# Altium footprint library Discrete_Diodes_Footprints_SMD.PcbLib: 6 footprints
Each footprint in its own frame and in the unit in brackets; x right, y up, seen from the top. Pads: shape width x height; smd on the part's side, far side on the other; paste and mask are expansions set on the pad; w line width, h text height; cw(c..) or ccw(c..) is an arc to the next point about the centre after c.
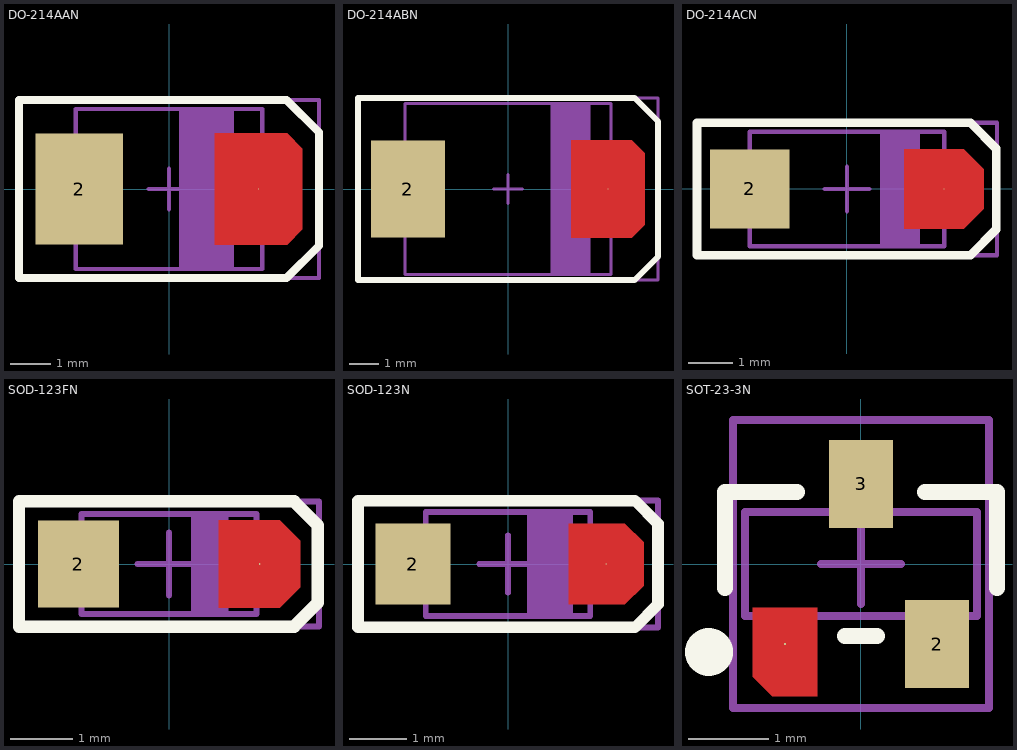
[diagram p0: the footprints below, top view; thin cyan lines are the x and y axes]

## DO-214AAN [mil]
height 98.43
pads (2):
  round 1 smd: 1(87.01,0)
  rect 85x107.99 smd: 2(-87.01,0)
Top Layer:
  region: 129.51,39.12 114.63,54 44.51,54 44.51,-54 114.63,-54 129.51,-39.12
Top Overlay:
  lines w7.87: -145.67,-86.61 -145.67,86.61 114.17,86.61 145.67,55.12 145.67,-55.12 114.17,-86.61 -145.67,-86.61
Top Package:
  rectangle: 12.8,-77.76 62.01,78.74
  lines w3.94: -90.55,-43.31 -110.24,-43.31 -110.24,43.31 -90.55,43.31 ; 11.81,-76.77 11.81,77.76 ; 61.02,-77.76 61.02,77.76 ; 90.55,-43.31 110.24,-43.31 110.24,43.31 90.55,43.31 ; -90.55,-77.76 90.55,-77.76 90.55,77.76 -90.55,77.76 -90.55,-77.76
Top Comment:
  text ".Comment" at -67.01,-15.38 h47.24
Top Designator:
  text ".Designator" at -101.53,-13.76 h59.06
Top Border:
  lines w3.94: -19.68,0 19.68,0 ; 0,-19.68 0,19.68 ; -145.67,-86.61 145.67,-86.61 145.67,86.61 -145.67,86.61 -145.67,-86.61
3D body "User Library-DO-214AA_SMB.step": height 86.65, standoff -1.97, extent -104.34,-72.84 104.32,72.83

## DO-214ABN [mm]
height 2.5
pads (2):
  round 0.025 smd: 1(3.4,0)
  rect 2.5x3.3 smd: 2(-3.4,0)
Top Layer:
  region: 4.65,1.213 4.213,1.65 2.15,1.65 2.15,-1.65 4.213,-1.65 4.65,-1.213
Top Overlay:
  lines w0.2: -5.1,-3.1 4.3,-3.1 5.1,-2.3 5.1,2.3 4.3,3.1 -5.1,3.1 -5.1,-3.1
Top Package:
  rectangle: 1.525,-2.875 2.775,2.875
  lines w0.1: -3.5,-1.4 -4,-1.4 -4,1.4 -3.5,1.4 ; 1.5,-2.9 1.5,2.9 ; 2.75,-2.9 2.75,2.9 ; 3.5,-1.5 4,-1.5 4,1.5 3.5,1.5 ; -3.5,-2.9 3.5,-2.9 3.5,2.9 -3.5,2.9 -3.5,-2.9
Top Comment:
  text ".Comment" at -2.127,-0.488 h1.5
Top Designator:
  text ".Designator" at -3.743,-0.467 h2
Top Border:
  lines w0.1: -0.5,0 0.5,0 ; 0,-0.5 0,0.5 ; -5.1,-3.1 -5.1,3.1 5.1,3.1 5.1,-3.1 -5.1,-3.1
3D body "DO-214AB.step": height 2.3, standoff 0, extent -3.975,-2.95 3.975,2.95

## DO-214ACN [mm]
height 2.5
pads (2):
  round 0.025 smd: 1(2.2,0)
  rect 1.8x1.8 smd: 2(-2.2,0)
Top Layer:
  region: 2.65,-0.9 1.3,-0.9 1.3,0.9 2.65,0.9 3.1,0.45 3.1,-0.45
Top Overlay:
  lines w0.2: -3.4,-1.5 2.8,-1.5 3.383,-0.917 3.383,0.917 2.8,1.5 -3.4,1.5 -3.4,-1.5
Top Package:
  rectangle: 0.8,-1.3 1.6,1.3
  lines w0.1: -2.2,-0.7 -2.6,-0.7 -2.6,0.7 -2.2,0.7 ; 0.8,-1.3 0.8,1.3 ; 1.6,-1.3 1.6,1.3 ; 2.2,-0.7 2.6,-0.7 2.6,0.7 2.2,0.7 ; -2.2,-1.3 -2.2,1.3 2.2,1.3 2.2,-1.3 -2.2,-1.3
Top Comment:
  text ".Comment" at -1.717,-0.391 h1.2
Top Designator:
  text ".Designator" at -2.979,-0.349 h1.5
Top Border:
  lines w0.1: -0.5,0 0.5,0 ; 0,-0.5 0,0.5 ; -3.4,-1.5 -3.4,1.5 3.4,1.5 3.4,-1.5 -3.4,-1.5
3D body "DO-214AC.STEP": height 2.3, standoff -0.1, extent -2.6,-1.3 2.6,1.3

## SOD-123FN [mm]
height 1.35
pads (2):
  round 0.025 smd: 1(1.45,0)
  rect 1.3x1.4 smd: 2(-1.45,0)
Top Layer:
  region: 2.1,0.375 1.775,0.7 0.8,0.7 0.8,-0.7 1.775,-0.7 2.1,-0.375
Top Overlay:
  lines w0.2: -2.4,-1 -2.4,1 2,1 2.383,0.617 2.383,-0.617 2,-1 -2.4,-1
Top Package:
  rectangle: 0.4,-0.8 0.9,0.8
  lines w0.1: -1.4,-0.4 -1.9,-0.4 -1.9,0.4 -1.4,0.4 ; 0.4,-0.8 0.4,0.8 ; 0.9,-0.8 0.9,0.8 ; 1.4,-0.4 1.9,-0.4 1.9,0.4 1.4,0.4 ; -1.4,-0.8 -1.4,0.8 1.4,0.8 1.4,-0.8 -1.4,-0.8
Top Comment:
  text ".Comment" at -1.702,-0.391 h1.2
Top Designator:
  text ".Designator" at -2.579,-0.349 h1.5
Top Border:
  lines w0.1: -0.5,0 0.5,0 ; 0,-0.5 0,0.5 ; -2.4,-1 2.4,-1 2.4,1 -2.4,1 -2.4,-1
3D body "SOD-123FL.step": height 0.95, standoff 0, extent -1.8,-0.825 1.8,0.825

## SOD-123N [mm]
pads (2):
  round 0.025 smd: 1(1.7,0)
  rect 1.3x1.4 smd: 2(-1.65,0)
Top Layer:
  region: 2.35,0.375 2.025,0.7 1.05,0.7 1.05,-0.7 2.025,-0.7 2.35,-0.375
Top Overlay:
  lines w0.2: -2.6,-1.1 -2.6,1.1 2.2,1.1 2.6,0.7 2.6,-0.7 2.2,-1.1 -2.6,-1.1
Top Package:
  rectangle: 0.375,-0.9 1.1,0.9
  lines w0.1: -1.425,-0.35 -1.925,-0.35 -1.925,0.35 -1.425,0.35 ; 0.375,-0.9 0.375,0.9 ; 1.075,-0.9 1.075,0.9 ; 1.425,-0.35 1.925,-0.35 1.925,0.35 1.425,0.35 ; -1.425,-0.9 1.425,-0.9 1.425,0.9 -1.425,0.9 -1.425,-0.9
Top Comment:
  text ".Comment" at -1.717,-0.385 h1.2
Top Designator:
  text ".Designator" at -2.979,-0.344 h1.5
Top Border:
  lines w0.1: -0.5,0 0.5,0 ; 0,-0.5 0,0.5 ; -2.6,-1.1 2.6,-1.1 2.6,1.1 -2.6,1.1 -2.6,-1.1
3D body "User Library-SOD-123_DiodesInc.step": height 1.42, standoff -0.03, extent -2,-0.886 1.85,0.814

## SOT-23-3N [mm]
height 1.2
pads (3):
  round 0.025 smd: 1(-0.95,-1)
  rect 0.8x1.1 smd: 2(0.95,-1) 3(0,1)
Top Layer:
  region: -1.35,-0.55 -0.55,-0.55 -0.55,-1.65 -1.11,-1.65 -1.35,-1.41
Top Overlay:
  circle w0.3: c-1.9,-1.1 r0.15
  lines w0.2: -1.7,-0.3 -1.7,0.9 -0.8,0.9 ; -0.2,-0.9 0.2,-0.9 ; 0.8,0.9 1.7,0.9 1.7,-0.3
Top Package:
  lines w0.1: -1.175,-0.95 -0.725,-0.95 ; -1.175,-0.675 -1.175,-1.25 -0.725,-1.25 -0.725,-0.675 ; -0.225,0.65 -0.225,1.225 0.225,1.225 0.225,0.65 ; -0.225,0.925 0.225,0.925 ; 0.725,-0.95 1.175,-0.95 ; 0.725,-0.65 0.725,-1.225 1.175,-1.225 1.175,-0.65 ; -1.45,-0.65 1.45,-0.65 1.45,0.65 -1.45,0.65 -1.45,-0.65
Top Comment:
  text ".Comment" at -1.702,-0.406 h1.2
Top Designator:
  text ".Designator" at -2.579,-0.364 h1.5
Top Border:
  lines w0.1: -0.5,0 0.5,0 ; 0,-0.5 0,0.5 ; -1.6,-1.8 -1.6,1.8 1.6,1.8 1.6,-1.8 -1.6,-1.8
3D body "SOT23-3.step": height 1.3, standoff 0, extent -1.45,-1.4 1.45,1.4